# Altium footprint library RCDQLY.PCBLIB: 149 footprints (part 5 of 10)
Each footprint in its own frame and in the unit in brackets; x right, y up, seen from the top. Pads: shape width x height; smd on the part's side, far side on the other; paste and mask are expansions set on the pad; w line width, h text height; cw(c..) or ccw(c..) is an arc to the next point about the centre after c.
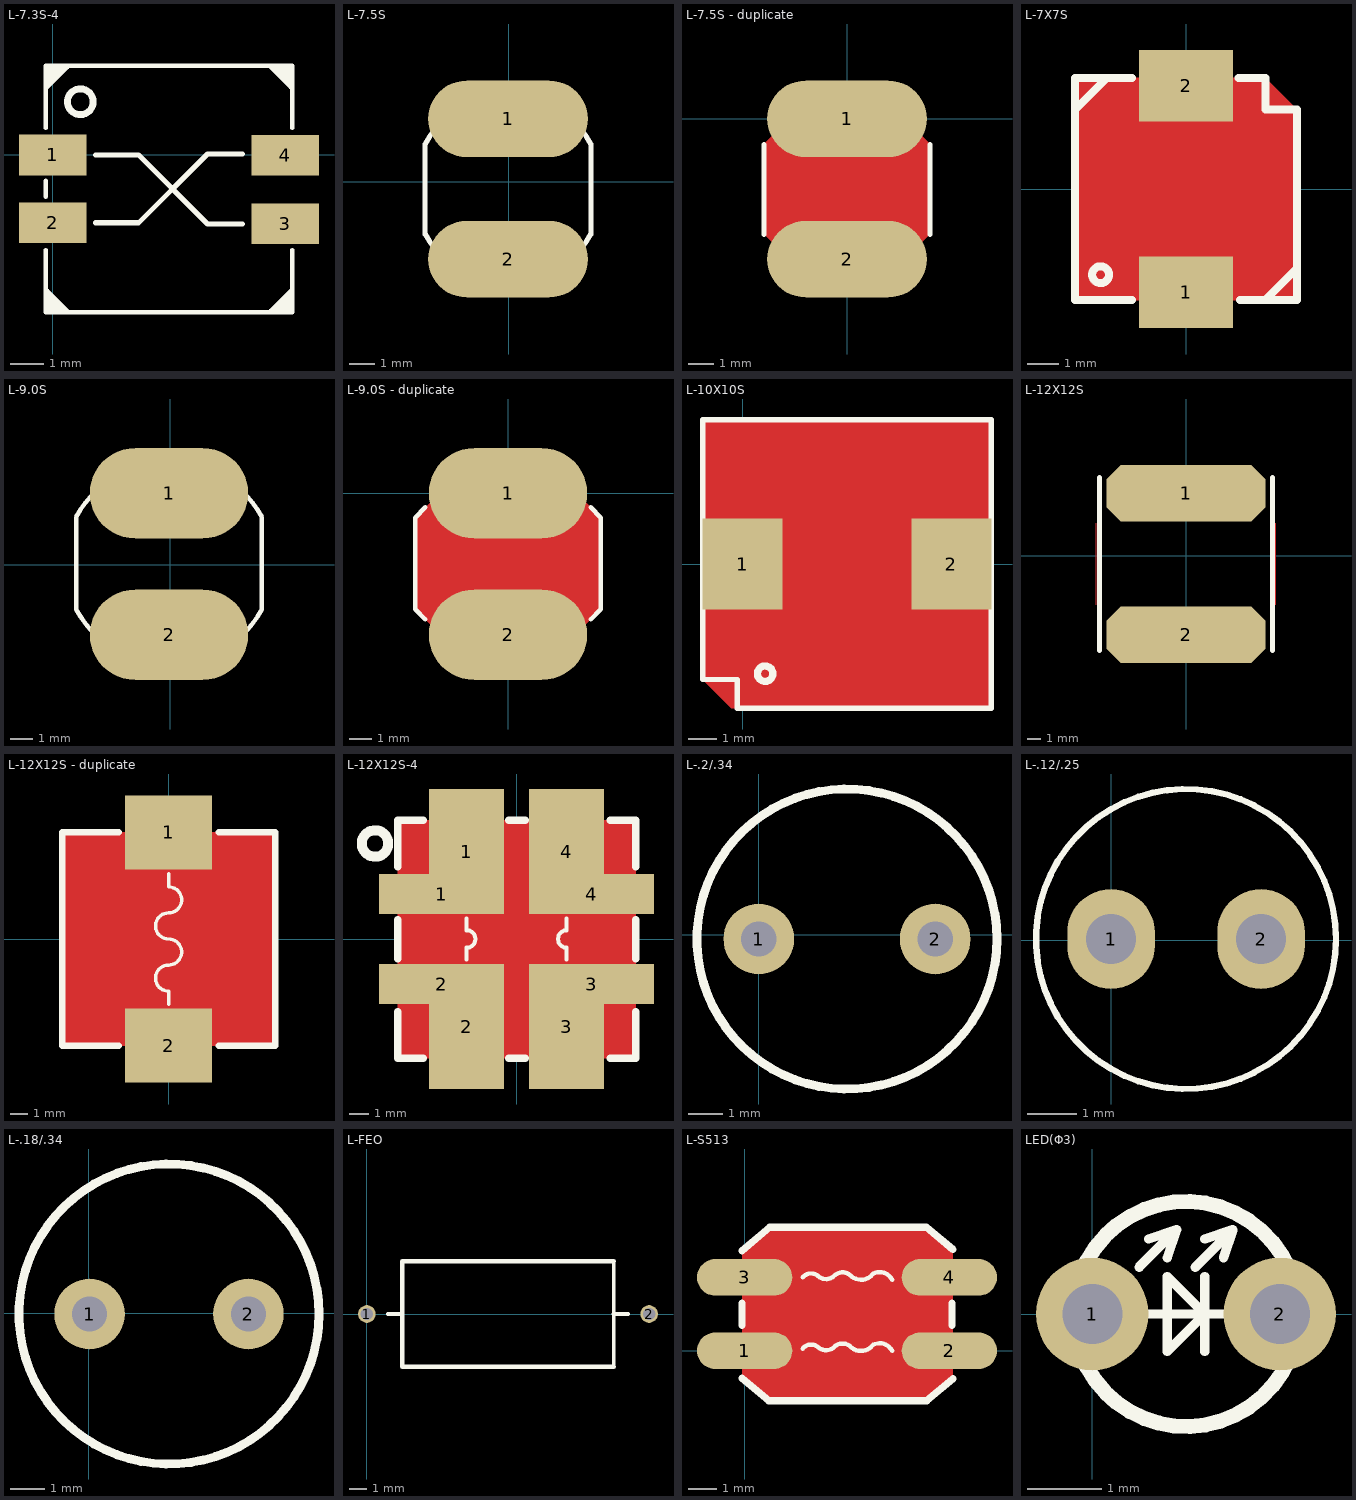
[diagram p4: the footprints below, top view; thin cyan lines are the x and y axes]

## L-7.3S-4 [mm]
height 3.3
pads (4):
  rect 2x1.2 smd: 1(0,0) 2(0,-2.007) 3(6.875,-2.039) 4(6.875,-0.007)
TopOverlay:
  circle w0.203: c0.813,1.575 r0.381
  lines w0.127: -0.213,-4.148 0.296,-4.657 ; -0.213,-2.81 -0.213,-4.657 ; -0.213,-1.235 -0.213,-0.762 ; -0.213,0.797 -0.213,2.643 ; -0.213,1.957 0.424,2.594 ; -0.213,2.135 0.296,2.643 ; -0.213,2.236 0.145,2.594 ; -0.213,2.338 -0.008,2.543 ; -0.163,-4.299 0.195,-4.657 ; -0.163,-4.02 0.474,-4.657 ; -0.112,-4.556 -0.213,-4.657 ; -0.112,-4.452 0.093,-4.657 ; -0.112,2.543 -0.213,2.643 ; 6.401,2.643 7.038,2.007 ; 6.451,-4.607 7.087,-3.97 ; 6.579,-4.657 7.087,-4.148 ; 6.579,2.643 7.087,2.135 ; 6.68,2.643 7.038,2.286 ; 6.73,-4.607 7.087,-4.249 ; 6.782,2.643 6.987,2.438 ; 6.882,-4.556 7.087,-4.351 ; 6.987,-4.556 7.087,-4.657 ; 6.987,2.543 7.087,2.643 ; 7.087,-2.81 7.087,-4.657 ; 7.087,0.797 7.087,2.643 ; -0.213,-4.657 7.087,-4.657 ; -0.213,2.643 7.087,2.643
  lines w0.152: 1.27,-2.007 2.54,-2.007 4.579,0.032 5.605,0.032 ; 1.27,0 2.54,0 4.579,-2.039 5.605,-2.039

## L-7.5S [mil]
pads (2):
  oval 250x120 smd: 1(-1,99) 2(-1,-121)
TopOverlay:
  lines w8: -131,-82 -131,59 ; -130.58,-81.77 ccw(c-1,-11) 128.58,-81.77 ; -130.58,59.77 cw(c-1,-11) 128.58,59.77 ; 129,-82 129,59

## L-7.5S - duplicate [mil]
pads (2):
  oval 250x120 smd: 1(0,0) 2(0,-220)
TopLayer:
  pour cut-out: -129.58,-39.23 -60.35,30 60.35,30 129.58,-39.23 129.58,-180.77 55.35,-255 -56,-255 -130,-181 -130,-40
TopOverlay:
  lines w8: -130,-181 -130,-40 ; 130,-181 130,-40

## L-7X7S [mil]
pads (2):
  rect 118.11x90 smd: 1(0,-130) 2(0,130)
TopLayer:
  pour cut-out: -140,140 -140,-140 140,-140 140,100 100,140
TopOverlay:
  circle w10: c-107.65,-108 r10.65
  lines w10: -140,100 -100,140 ; -68,-140 -140,-140 -140,140 -68,140 ; 66,140 100,140 100,100 140,100 140,-140 68,-140 ; 100,-140 140,-100

## L-9.0S [mil]
pads (2):
  oval 280x160 smd: 1(-2,126) 2(-2,-124)
TopOverlay:
  lines w8: -166.27,84 cw(c-2.13,-5.64) 162,84 ; -166,83 -166,-79 ccw(c-1.87,10.64) 162.27,-79 ; 162,-79 162,83

## L-9.0S - duplicate [mil]
pads (2):
  oval 280x160 smd: 1(0,0) 2(0,-250)
TopLayer:
  pour cut-out: -164,-205 -164,-43 -66,55 67,55 164,-42 164,-205 68,-301 -68,-301
TopOverlay:
  lines w8: -146,-223 -164,-205 -164,-43 -146,-25 ; 146,-223 164,-205 164,-43 146,-25

## L-10X10S [mm]
pads (2):
  rect 2.8x3.2 smd: 1(0,0) 2(7.3,0)
TopLayer:
  pour cut-out: -1.4,5.05 8.7,5.05 8.7,-5.05 -0.393,-5.05 -1.4,-4.043
TopOverlay:
  circle w0.254: c0.784,-3.84 r0.27
  lines w0.178: -1.4,-4.043 -0.19,-4.043 -0.19,-5.05 8.7,-5.05 8.7,5.05 -1.4,5.05 -1.4,-4.043

## L-12X12S [mil]
pads (2):
  oct 450x160 smd: 1(0,177) 2(0,-223)
TopLayer:
  lines w2: -254,-138 -254,92 ; 254,-138 254,92
TopOverlay:
  lines w15: -245,-268 -245,222 ; 245,-268 245,222

## L-12X12S - duplicate [mil]
pads (2):
  rect 200x170 smd: 1(0,245) 2(0,-245)
TopLayer:
  pour cut-out: -245,245.5 247,245.5 247,-245.5 -245,-245.5
TopOverlay:
  lines w8: 0,-150 0,-120 cw(c0,-90) 0,-60 ccw(c0,-30) 0,0 cw(c0,30) 0,60 ccw(c0,90) 0,120 0,150
  lines w15: -115,-245 -245,-245 -245,245 -115,245 ; 115,-245 245,-245 245,245 115,245

## L-12X12S-4 [mil]
pads (8):
  rect 250x80 smd: 1(-150,90) 2(-150,-90) 3(150,-90) 4(150,90)
  rect 150x250 smd: 1(-100,175) 2(-100,-175) 3(100,-175) 4(100,175)
TopLayer:
  pour cut-out: -238,238 238,238 238,-238 -238,-238
TopOverlay:
  circle w20: c-283.48,191 r26.48
  lines w8: -100,-41.46 -100,-17.46 ccw(c-100,0) -100,17.46 -100,41.46 ; 100,-41.46 100,-17.46 cw(c100,0) 100,17.46 100,41.46
  lines w15: -238,-145 -238,-238 -187,-238 ; -238,-39 -238,39 ; -238,145 -238,238 -187,238 ; -16,-238 17,-238 ; -16,238 17,238 ; 187,-238 238,-238 238,-145 ; 187,238 238,238 238,145 ; 238,-39 238,39

## L-.2/.34 [mil]
pads (2):
  round 80 hole 40: 1(0,-5) 2(200,-5)
TopOverlay:
  circle w10: c100,-5 r170

## L-.12/.25 [mil]
pads (2):
  oval 70x80 hole 40: 1(0,1) 2(120,1)
TopOverlay:
  circle w5: c60,1 r120

## L-.18/.34 [mil]
pads (2):
  round 80 hole 40: 1(1,-1) 2(181,-1)
TopOverlay:
  circle w10: c91,-1 r170

## L-FEO [mm]
pads (2):
  round 1 hole 0.7: 1(0,0) 2(16,0)
TopOverlay:
  lines w0.2: 14,-3 14,3
  lines w0.254: 1.2,0 2,0 ; 14,-3 2,-3 2,3 14,3 ; 14,0 14.8,0

## L-S513 [mil]
pads (4):
  oval 130x50 smd: 1(0,0) 2(279,0) 3(0,100) 4(279,100)
TopLayer:
  pour cut-out: -3.59,136.41 34.22,168.22 247.78,168.22 284,138 284,-38 248,-68 33,-68 -3.59,-37.41
TopOverlay:
  lines w6: 79,3 cw(c90.5,-6.5) 100,5 ccw(c111,17) 123,6 cw(c133.5,-6.5) 146,4 ccw(c158.5,20.5) 175,8 cw(c184,-9) 201,0 ; 79,100 cw(c90.5,90.5) 100,102 ccw(c111,114) 123,103 cw(c133.5,90.5) 146,101 ccw(c158.5,117.5) 175,105 cw(c184,88) 201,97
  lines w10: -3.59,35 -3.59,65 ; 49,-68 33,-68 ; 55,168.22 34.22,168.22 ; 235,-68 248,-68 ; 237,168.22 247.78,168.22 ; 238,-68 248,-68 ; 282.59,35 282.59,65 ; 33,-68 -3.59,-37.41 33,-68 ; 33,-68 248,-68 ; 34.22,168.22 -3.59,136.41 34.22,168.22 ; 34.22,168.22 247.78,168.22 ; 247.78,168.22 284,138 247.78,168.22 ; 248,-68 284,-38 248,-68

## LED(Φ3) [mil]
pads (2):
  round 60 hole 32: 1(0,0) 2(100,0)
TopOverlay:
  circle w8: c50,0 r60
  lines w5: 25,25 45,45 ; 30,0 70,0 ; 30,40 45,45 ; 40,30 45,45 ; 55,25 75,45 ; 60,-20 60,20 ; 60,40 75,45 ; 70,30 75,45 ; 40,-20 60,0 40,20 40,-20